# EAGLE library part MRF24J40MA (library lieven)
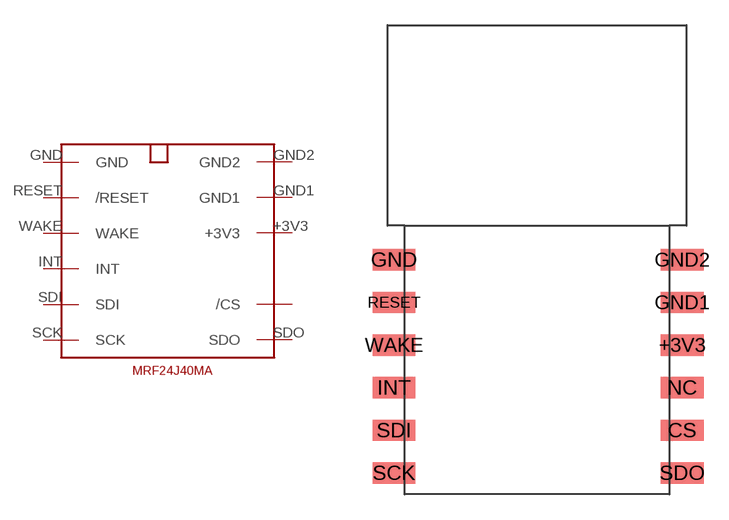
[diagram p11: symbol with the pads of MRF24J40MA; footprint MRF24J40MA]

Designator prefix -

## MRF24J40MA  [MRF24J40MA]
+3V3  +3V3
GND  GND
GND1  GND1
GND2  GND2
INT  INT
RESET  /RESET
SCK  SCK
SDI  SDI
SDO  SDO
WAKE  WAKE

## Footprint MRF24J40MA (pad centres in mm)
smd 2.54 x 1.27: +3V3 16.51,8.89; CS 16.51,3.81; GND -0.635,13.97; GND1 16.51,11.43; GND2 16.51,13.97; INT -0.635,6.35; NC 16.51,6.35; RESET -0.635,11.43; SCK -0.635,1.27; SDI -0.635,3.81; SDO 16.51,1.27; WAKE -0.635,8.89